# EAGLE library part LT1765 (library harp camera controller)
Monolithic 3A, 1.25MHz Step-Down Switching Regulator
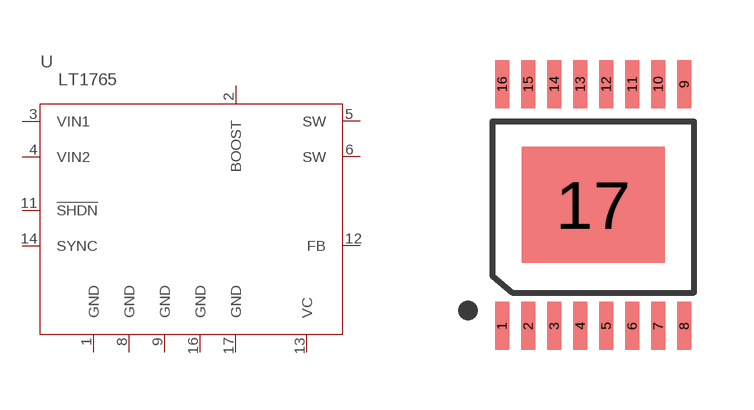
[diagram p10: symbol with the pads of TSSOP16EXP; footprint TSSOP16EXP]

Designator prefix U

## LT1765  [TSSOP16EXP]
1  GND
2  BOOST
3  VIN1
4  VIN2
5  SW
6  SW
7  NC7
8  GND
9  GND
10  NC10
11  !SHDN
12  FB
13  VC
14  SYNC
15  NC15
16  GND
17  GND

## Footprint TSSOP16EXP (pad centres in mm)
Thin Shrink Small Outline Plastic 16 Exposed Pad Variation
smd 0.35 x 1.2: 1 -2.159,-2.897; 2 -1.504,-2.897; 3 -0.854,-2.897; 4 -0.204,-2.897; 5 0.446,-2.897; 6 1.096,-2.897; 7 1.746,-2.897; 8 2.396,-2.897; 9 2.396,3.148; 10 1.746,3.148; 11 1.096,3.148; 12 0.446,3.148; 13 -0.204,3.148; 14 -0.854,3.148; 15 -1.504,3.148; 16 -2.154,3.148
smd 3.58 x 2.9: 17 0.121,0.126